# Altium footprint library e-switch.PcbLib: 2 footprints
Each footprint in its own frame and in the unit in brackets; x right, y up, seen from the top. Pads: shape width x height; smd on the part's side, far side on the other; paste and mask are expansions set on the pad; w line width, h text height; cw(c..) or ccw(c..) is an arc to the next point about the centre after c.
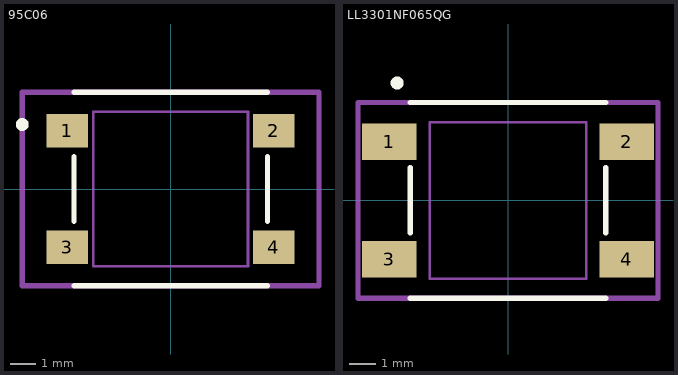
[diagram p0: the footprints below, top view; thin cyan lines are the x and y axes]

## 95C06 [mm]
height 4.3
pads (4):
  rect 1.6x1.3 smd: 1(-4,2.25) 2(4,2.25) 3(-4,-2.25) 4(4,-2.25)
Top Overlay:
  circle w0.25: c-5.75,2.5 r0.125
  lines w0.2: -3.75,-3.75 3.75,-3.75 ; -3.75,-1.25 -3.75,1.25 ; -3.75,3.75 3.75,3.75 ; 3.75,-1.25 3.75,1.25
Mechanical 1:
  lines w0.1: -3,-3 -3,3 3,3 3,-3 -3,-3
Mechanical 15:
  lines w0.2: -5.75,-3.75 5.75,-3.75 5.75,3.75 -5.75,3.75 -5.75,-3.75
3D body: height 13, standoff 0, extent -1.8,-1.8 1.8,1.8
3D body: height 3.6, standoff 0, extent -3.05,-3.05 3.05,3.05

## LL3301NF065QG [mm]
height 4.3
pads (4):
  rect 2.1x1.4 smd: 1(-4.55,2.25) 2(4.55,2.25) 3(-4.55,-2.25) 4(4.55,-2.25)
Top Overlay:
  circle w0.25: c-4.25,4.5 r0.125
  lines w0.2: -3.75,-3.75 3.75,-3.75 ; -3.75,-1.25 -3.75,1.25 ; -3.75,3.75 3.75,3.75 ; 3.75,-1.25 3.75,1.25
Mechanical 1:
  lines w0.1: -3,-3 -3,3 3,3 3,-3 -3,-3
Mechanical 15:
  lines w0.2: -5.75,-3.75 5.75,-3.75 5.75,3.75 -5.75,3.75 -5.75,-3.75
3D body: height 4, standoff 3.6, extent -1.786,-1.796 1.8,1.797
3D body: height 3.6, standoff 0, extent -3.05,-3.05 3.05,3.05